# EAGLE library part JST8 (library we-con)
JST Connector
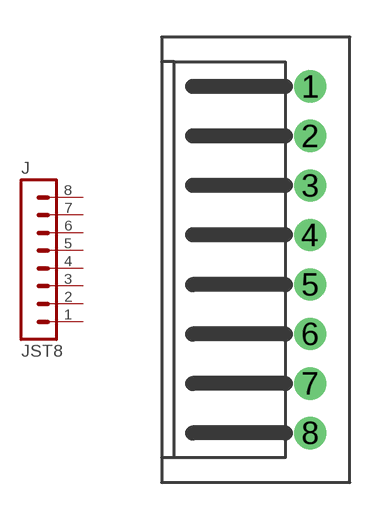
[diagram p41: symbol with the pads of JST_S8B-PH-K; footprint JST_S8B-PH-K]

Designator prefix J

## JST8-S8B-PH-K  [JST_S8B-PH-K]
1  1  pas
2  2  pas
3  3  pas
4  4  pas
5  5  pas
6  6  pas
7  7  pas
8  8  pas

## Footprint JST_S8B-PH-K (pad centres in mm)
Side Entry -K - normal insertion force / -KL - low insertion force
drill 0.8 pad 1.3: 1 0,7; 2 0,5; 3 0,3; 4 0,1; 5 0,-1; 6 0,-3; 7 0,-5; 8 0,-7